# Altium footprint library Mosfet.PcbLib: 3 footprints
Each footprint in its own frame and in the unit in brackets; x right, y up, seen from the top. Pads: shape width x height; smd on the part's side, far side on the other; paste and mask are expansions set on the pad; w line width, h text height; cw(c..) or ccw(c..) is an arc to the next point about the centre after c.
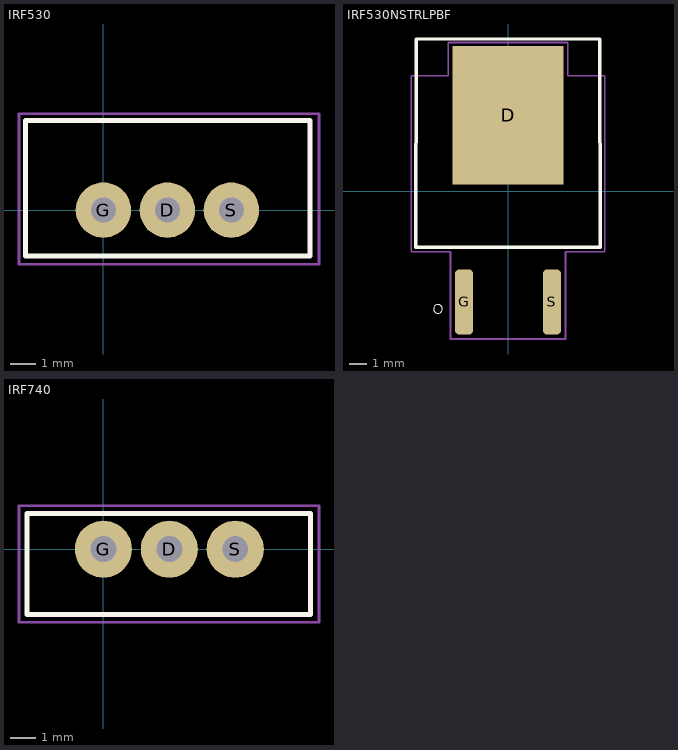
[diagram p0: the footprints below, top view; thin cyan lines are the x and y axes]

## IRF530 [mm]
pads (3):
  round 2.2 hole 1 mask+0.102: D(2.54,0) G(0,0) S(5.08,0)
Top Overlay:
  lines w0.2: -3.099,-1.829 8.204,-1.829 8.204,3.556 -3.099,3.556 -3.099,-1.829
Mechanical 3:
  lines w0.1: -3.353,-2.159 8.56,-2.159 8.56,3.835 -3.353,3.835 -3.353,-2.159
3D body "irf530pbf.stp": height 26.26, standoff -4.73, extent -2.796,-1.528 7.874,3.302

## IRF530NSTRLPBF [mm]
pads (3):
  rect 6.39x8 smd: D(0,4.4)
  rrect53% 1.06x3.78 smd: G(-2.54,-6.4) S(2.54,-6.4)
Top Overlay:
  circle w0: c-4.05,-6.8 r0.25
  lines w0.2: -5.34,-3.24 -5.3,8.8 5.3,8.8 5.32,-3.24 -5.34,-3.24
Mechanical 15:
  lines w0.1: -5.59,-3.49 -3.32,-3.49 -3.32,-8.54 3.32,-8.54 3.32,-3.49 5.59,-3.49 5.59,6.67 3.45,6.67 3.45,8.6 -3.45,8.6 -3.45,6.67 -5.59,6.67 -5.59,-3.49
3D body "D2PAK-2 L7805.step": height 5.08, standoff 0, extent -5.047,-7.62 4.953,8.004

## IRF740 [mm]
pads (3):
  round 2.2 hole 1 mask+0.102: D(2.54,0) G(0,0) S(5.08,0)
Top Overlay:
  lines w0.2: -2.946,-2.515 7.976,-2.515 7.976,1.372 -2.946,1.372 -2.946,-2.515
Mechanical 3:
  lines w0.1: -3.251,-2.819 8.306,-2.819 8.306,1.676 -3.251,1.676 -3.251,-2.819
3D body "Mosfet IRF740.step": height 18.6, standoff -9.98, extent -2.629,-2.209 7.671,1.091